# EAGLE library part CCS811 (library dr-library)
ams Air Quality Gas Sensor Detects VOCs for indoor use
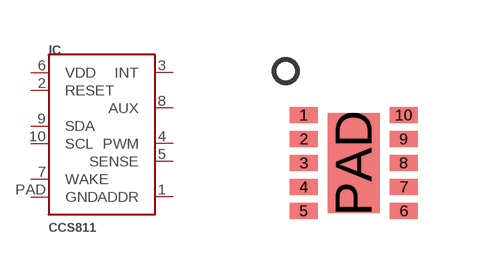
[diagram p21: symbol with the pads of LGA-10_6MM; footprint LGA-10_6MM]

Designator prefix IC

## CCS811  [LGA-10_6MM]
1  ADDR
2  RESET
3  INT
4  PWM
5  SENSE
6  VDD
7  WAKE
8  AUX
9  SDA
10  SCL
PAD  GND

## Footprint LGA-10_6MM (pad centres in mm)
smd 0.7 x 0.4: 1 -1.25,1.2; 2 -1.25,0.6; 3 -1.25,0; 4 -1.25,-0.6; 5 -1.25,-1.2; 6 1.25,-1.2; 7 1.25,-0.6; 8 1.25,0; 9 1.25,0.6; 10 1.25,1.2
smd 1.3 x 2.5: PAD 0,0